# Altium schematic symbol library 686 3xx 124 422.SchLib: 13 symbols
Pins are listed as number, name and electrical type; pins without a type are passive.

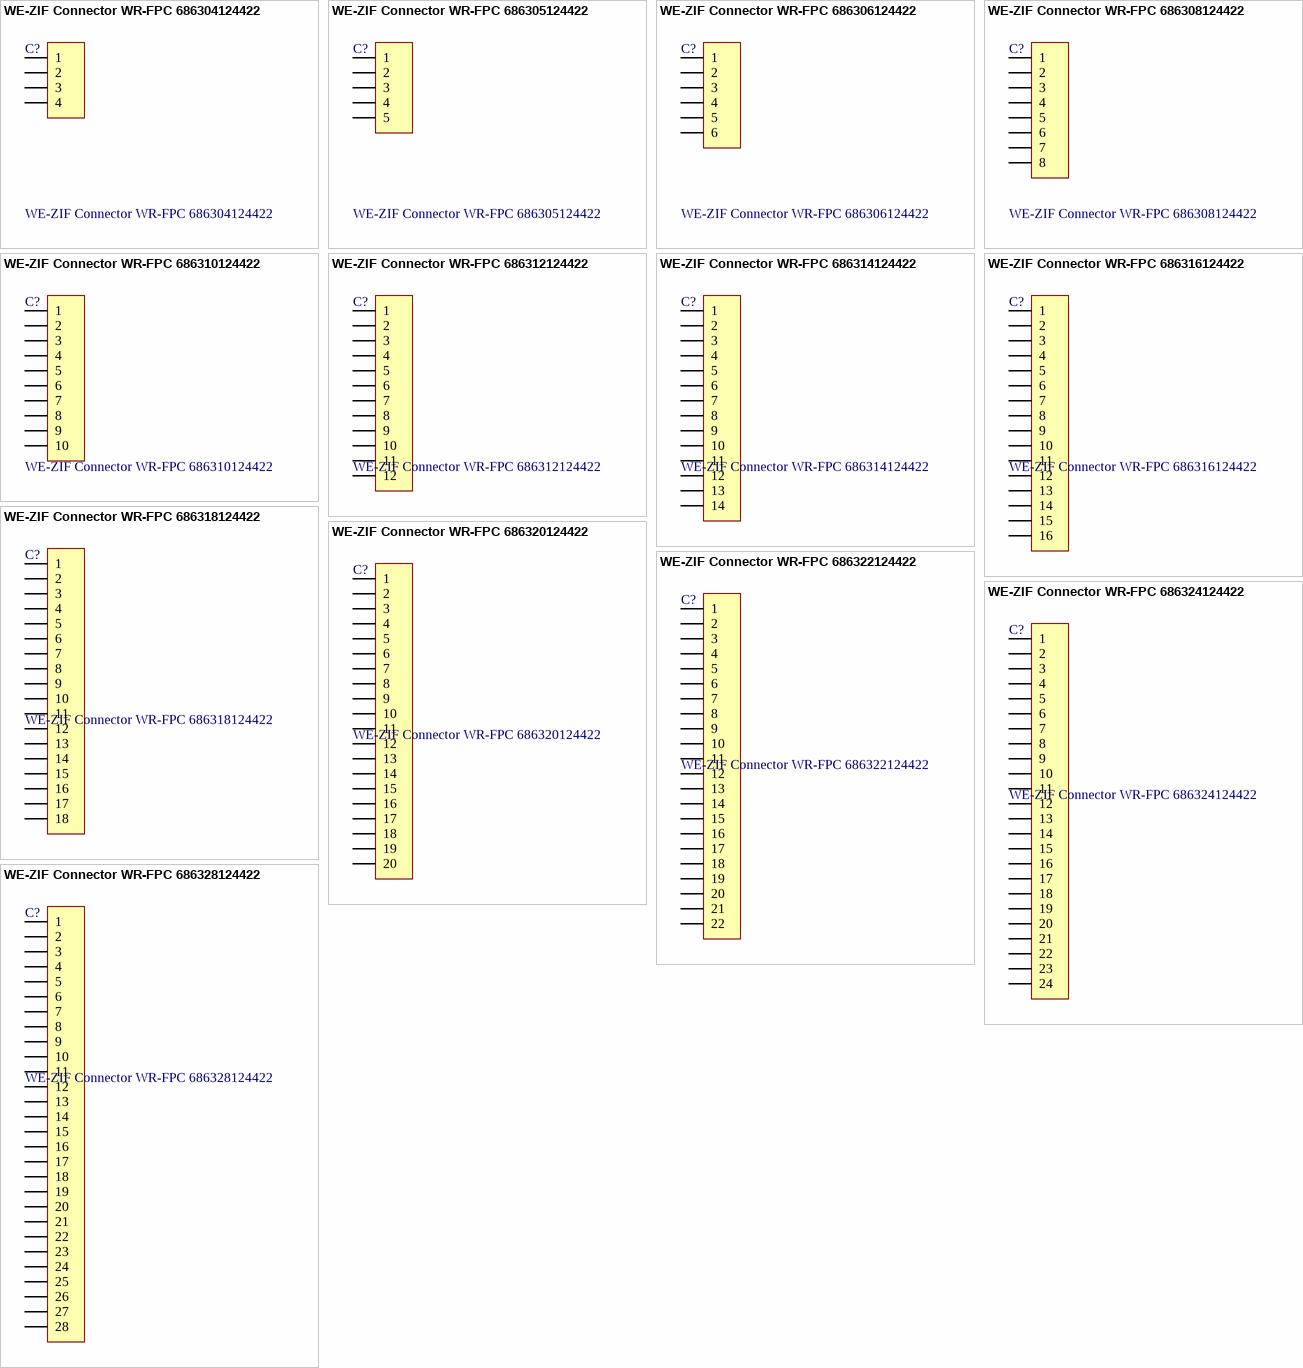
[diagram p0: symbols WE-ZIF Connector WR-FPC 686304124422 to WE-ZIF Connector WR-FPC 686328124422]

## WE-ZIF Connector WR-FPC 686304124422
designator C?
WR-FPC 1.00mm SMT ZIF Vertical Type A; Manufacturer: Würth Elektronik eiSos GmbH; ComponentLink1 Description: Manufacturer; ComponentLink2 Description: Datasheet; NoPins: 04; Created Date: 10 October 2013; partNo: 686304124422; ComponentLink1URL: http://www.we-online.com; ComponentLink2URL: http://katalog.we-online.de/em/datasheet/6863xx124422.pdf; Created by: Karrer Zheng
footprint 686304124422 (4 pins T&R with cap)
pins: 1, 2, 3, 4

## WE-ZIF Connector WR-FPC 686305124422
designator C?
WR-FPC 1.00mm SMT ZIF Vertical Type A; Manufacturer: Würth Elektronik eiSos GmbH; ComponentLink1 Description: Manufacturer; ComponentLink2 Description: Datasheet; NoPins: 05; Created Date: 10 October 2013; partNo: 686305124422; ComponentLink1URL: http://www.we-online.com; ComponentLink2URL: http://katalog.we-online.de/em/datasheet/6863xx124422.pdf; Created by: Karrer Zheng
footprint 686305124422 (5 pins T&R with cap)
pins: 1, 2, 3, 4, 5

## WE-ZIF Connector WR-FPC 686306124422
designator C?
WR-FPC 1.00mm SMT ZIF Vertical Type A; Manufacturer: Würth Elektronik eiSos GmbH; ComponentLink1 Description: Manufacturer; ComponentLink2 Description: Datasheet; NoPins: 06; Created Date: 10 October 2013; partNo: 686306124422; ComponentLink1URL: http://www.we-online.com; ComponentLink2URL: http://katalog.we-online.de/em/datasheet/6863xx124422.pdf; Created by: Karrer Zheng
footprint 686306124422 (6 pins T&R with cap)
pins: 1, 2, 3, 4, 5, 6

## WE-ZIF Connector WR-FPC 686308124422
designator C?
WR-FPC 1.00mm SMT ZIF Vertical Type A; Manufacturer: Würth Elektronik eiSos GmbH; ComponentLink1 Description: Manufacturer; ComponentLink2 Description: Datasheet; NoPins: 08; Created Date: 10 October 2013; partNo: 686308124422; ComponentLink1URL: http://www.we-online.com; ComponentLink2URL: http://katalog.we-online.de/em/datasheet/6863xx124422.pdf; Created by: Karrer Zheng
footprint 686308124422 (8 pins T&R with cap)
pins: 1, 2, 3, 4, 5, 6, 7, 8

## WE-ZIF Connector WR-FPC 686310124422
designator C?
WR-FPC 1.00mm SMT ZIF Vertical Type A; Manufacturer: Würth Elektronik eiSos GmbH; ComponentLink1 Description: Manufacturer; ComponentLink2 Description: Datasheet; NoPins: 10; Created Date: 10 October 2013; partNo: 686310124422; ComponentLink1URL: http://www.we-online.com; ComponentLink2URL: http://katalog.we-online.de/em/datasheet/6863xx124422.pdf; Created by: Karrer Zheng
footprint 686310124422 (10 pins T&R with cap)
pins: 1, 2, 3, 4, 5, 6, 7, 8, 9, 10

## WE-ZIF Connector WR-FPC 686312124422
designator C?
WR-FPC 1.00mm SMT ZIF Vertical Type A; Manufacturer: Würth Elektronik eiSos GmbH; ComponentLink1 Description: Manufacturer; ComponentLink2 Description: Datasheet; NoPins: 12; Created Date: 10 October 2013; partNo: 686312124422; ComponentLink1URL: http://www.we-online.com; ComponentLink2URL: http://katalog.we-online.de/em/datasheet/6863xx124422.pdf; Created by: Karrer Zheng
footprint 686312124422 (12 pins T&R with cap)
pins: 1, 2, 3, 4, 5, 6, 7, 8, 9, 10, 11, 12

## WE-ZIF Connector WR-FPC 686314124422
designator C?
WR-FPC 1.00mm SMT ZIF Vertical Type A; Manufacturer: Würth Elektronik eiSos GmbH; ComponentLink1 Description: Manufacturer; ComponentLink2 Description: Datasheet; NoPins: 14; Created Date: 10 October 2013; partNo: 686314124422; ComponentLink1URL: http://www.we-online.com; ComponentLink2URL: http://katalog.we-online.de/em/datasheet/6863xx124422.pdf; Created by: Karrer Zheng
footprint 686314124422 (14 pins T&R with cap)
pins: 1, 2, 3, 4, 5, 6, 7, 8, 9, 10, 11, 12, 13, 14

## WE-ZIF Connector WR-FPC 686316124422
designator C?
WR-FPC 1.00mm SMT ZIF Vertical Type A; Manufacturer: Würth Elektronik eiSos GmbH; ComponentLink1 Description: Manufacturer; ComponentLink2 Description: Datasheet; NoPins: 16; Created Date: 10 October 2013; partNo: 686316124422; ComponentLink1URL: http://www.we-online.com; ComponentLink2URL: http://katalog.we-online.de/em/datasheet/6863xx124422.pdf; Created by: Karrer Zheng
footprint 686316124422 (16 pins T&R with cap)
pins: 1, 2, 3, 4, 5, 6, 7, 8, 9, 10, 11, 12, 13, 14, 15, 16

## WE-ZIF Connector WR-FPC 686318124422
designator C?
WR-FPC 1.00mm SMT ZIF Vertical Type A; Manufacturer: Würth Elektronik eiSos GmbH; ComponentLink1 Description: Manufacturer; ComponentLink2 Description: Datasheet; NoPins: 18; Created Date: 10 October 2013; partNo: 686318124422; ComponentLink1URL: http://www.we-online.com; ComponentLink2URL: http://katalog.we-online.de/em/datasheet/6863xx124422.pdf; Created by: Karrer Zheng
footprint 686318124422 (18 pins T&R with cap)
pins: 1, 2, 3, 4, 5, 6, 7, 8, 9, 10, 11, 12, 13, 14, 15, 16, 17, 18

## WE-ZIF Connector WR-FPC 686320124422
designator C?
WR-FPC 1.00mm SMT ZIF Vertical Type A; Manufacturer: Würth Elektronik eiSos GmbH; ComponentLink1 Description: Manufacturer; ComponentLink2 Description: Datasheet; NoPins: 20; Created Date: 10 October 2013; partNo: 686320124422; ComponentLink1URL: http://www.we-online.com; ComponentLink2URL: http://katalog.we-online.de/em/datasheet/6863xx124422.pdf; Created by: Karrer Zheng
footprint 686320124422 (20 pins T&R with cap)
pins: 1, 2, 3, 4, 5, 6, 7, 8, 9, 10, 11, 12, 13, 14, 15, 16, 17, 18, 19, 20

## WE-ZIF Connector WR-FPC 686322124422
designator C?
WR-FPC 1.00mm SMT ZIF Vertical Type A; Manufacturer: Würth Elektronik eiSos GmbH; ComponentLink1 Description: Manufacturer; ComponentLink2 Description: Datasheet; NoPins: 22; Created Date: 10 October 2013; partNo: 686322124422; ComponentLink1URL: http://www.we-online.com; ComponentLink2URL: http://katalog.we-online.de/em/datasheet/6863xx124422.pdf; Created by: Karrer Zheng
footprint 686322124422 (22 pins T&R with cap)
pins: 1, 2, 3, 4, 5, 6, 7, 8, 9, 10, 11, 12, 13, 14, 15, 16, 17, 18, 19, 20, 21, 22

## WE-ZIF Connector WR-FPC 686324124422
designator C?
WR-FPC 1.00mm SMT ZIF Vertical Type A; Manufacturer: Würth Elektronik eiSos GmbH; ComponentLink1 Description: Manufacturer; ComponentLink2 Description: Datasheet; NoPins: 24; Created Date: 10 October 2013; partNo: 686324124422; ComponentLink1URL: http://www.we-online.com; ComponentLink2URL: http://katalog.we-online.de/em/datasheet/6863xx124422.pdf; Created by: Karrer Zheng
footprint 686324124422 (24 pins T&R with cap)
pins: 1, 2, 3, 4, 5, 6, 7, 8, 9, 10, 11, 12, 13, 14, 15, 16, 17, 18, 19, 20, 21, 22, 23, 24

## WE-ZIF Connector WR-FPC 686328124422
designator C?
WR-FPC 1.00mm SMT ZIF Vertical Type A; Manufacturer: Würth Elektronik eiSos GmbH; ComponentLink1 Description: Manufacturer; ComponentLink2 Description: Datasheet; NoPins: 28; Created Date: 10 October 2013; partNo: 686328124422; ComponentLink1URL: http://www.we-online.com; ComponentLink2URL: http://katalog.we-online.de/em/datasheet/6863xx124422.pdf; Created by: Karrer Zheng
footprint 686328124422 (28 pins T&R with cap)
pins: 1, 2, 3, 4, 5, 6, 7, 8, 9, 10, 11, 12, 13, 14, 15, 16, 17, 18, 19, 20, 21, 22, 23, 24, 25, 26, 27, 28